# Altium integrated library RJ45-8N-B.IntLib: 1 symbol
Pins are listed as number, name and electrical type; pins without a type are passive.

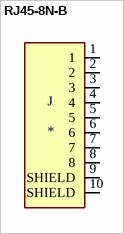
[diagram p0: symbol RJ45-8N-B]

## RJ45-8N-B
designator J
Jack Modular Connector 8p8c _RJ45, Ethernet_ 90Â° Angle _Right_ Unshielded; MP: RJ45-8N-B; MF: TE Connectivity; Price: None; Package: None; Value: *; TE_purchase_URL: https://www.te.com/usa-en/product-RJ45-8N-B.html?te_bu=Cor&te_type=disp&te_campaign=seda_glo_cor-seda-global-disp-prtnr-fy19-seda-model-bom-cta_sma-317_1&elqCampaignId=32493; Availability: Unavailable; SnapEDA_Link: https://www.snapeda.com/parts/RJ45-8N-B/TE%20Connectivity%20Corcom%20Filters/view-part/2782287/?ref=snap
footprint TE_RJ45-8N-B
pins: 1, 2, 3, 4, 5, 6, 7, 8, 9 SHIELD, 10 SHIELD